# Altium schematic symbol library LM2576T-5.0_LF03.SchLib: 1 symbol
Pins are listed as number, name and electrical type; pins without a type are passive.

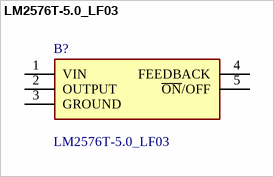
[diagram p0: symbol LM2576T-5.0_LF03]

## LM2576T-5.0_LF03
designator B?
Texas Instruments, LM2576T-5.0/LF03 Step-Down Switching Regulator 3A, 5 V, 5-Pin TO-220, Buck Controller; Geometry.Height: 4.7mm; Mouser Part Number: 926-LM2576T-50/LF03; Mouser Price/Stock: https://www.mouser.co.uk/ProductDetail/Texas-Instruments/LM2576T-5.0-LF03?qs=X1J7HmVL2ZH5uJCvpAOFhw%3D%3D; Manufacturer_Name: Texas Instruments; Manufacturer_Part_Number: LM2576T-5.0/LF03; Datasheet Link: http://www.ti.com/lit/gpn/LM2576
footprint TO170P470X1028X2142-5P
pins: 1 VIN, 2 OUTPUT, 3 GROUND, 4 FEEDBACK, 5 ~{ON}/OFF